# EAGLE library part LOWPOWERLAB_RFM12B_MINPADS (library Moteino)
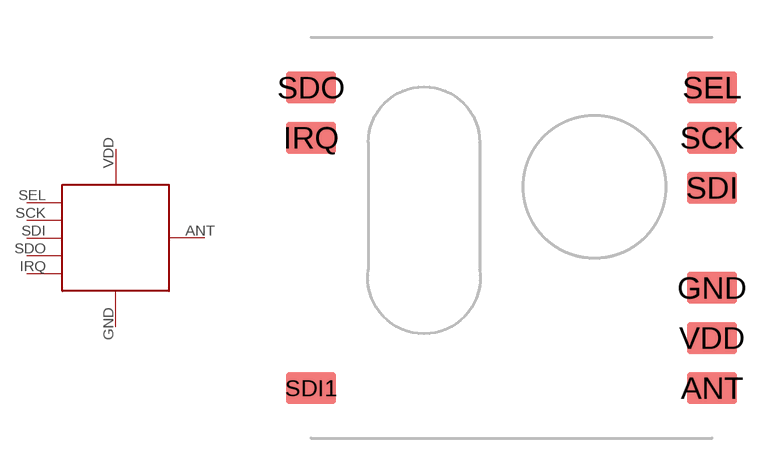
[diagram p2: symbol with the pads of LOWPOWERLAB_RFM12B-MINPADS; footprint LOWPOWERLAB_RFM12B-MINPADS]

Designator prefix -

## LOWPOWERLAB_RFM12B_MINPADS  [LOWPOWERLAB_RFM12B-MINPADS]
ANT  ANT
GND  GND
IRQ  IRQ
SCK  SCK
SDI  SDI/MOSI
SDO  SDO/MISO
SEL  SEL
VDD  VDD

## Footprint LOWPOWERLAB_RFM12B-MINPADS (pad centres in mm)
smd 2 x 1.27: ANT 8,-6; GND 8,-2; IRQ -8,4; SCK 8,4; SDI 8,2; SDI1 -8.002,-6.001; SDO -8,6; SEL 8,6; VDD 8,-4